# Altium footprint library QFN10P_20_118x118_TP94x65V5.PcbLib: 1 footprints
Each footprint in its own frame and in the unit in brackets; x right, y up, seen from the top. Pads: shape width x height; smd on the part's side, far side on the other; paste and mask are expansions set on the pad; w line width, h text height; cw(c..) or ccw(c..) is an arc to the next point about the centre after c.
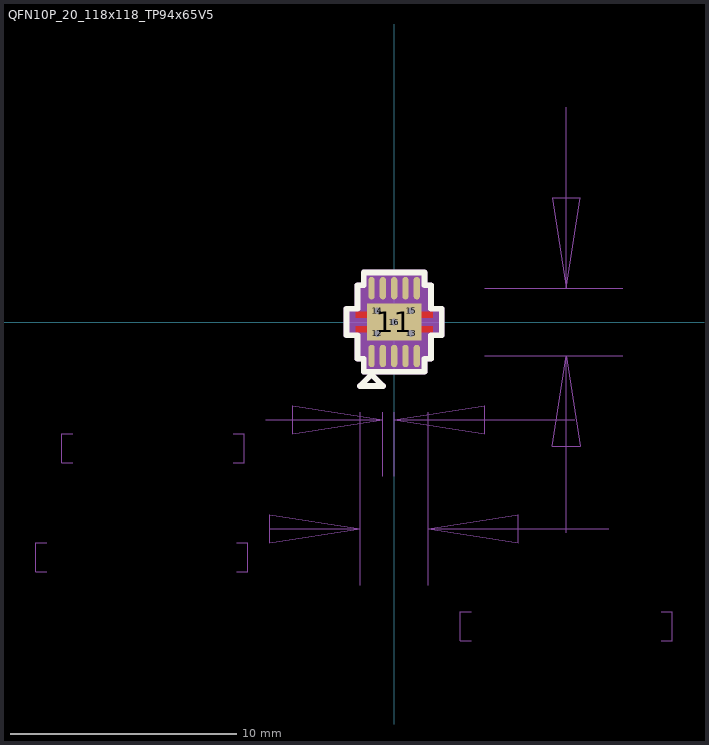
[diagram p0: the footprint, top view; thin cyan lines are the x and y axes]

## QFN10P_20_118x118_TP94x65V5 [mil] "QFN10P_20_118X118_TP94X65V5"
pads (16):
  oval 11x39 smd: 1(-39.37,-59.06) 2(-19.69,-59.06) 3(0,-59.06) 4(19.69,-59.06) 5(39.37,-59.06) 6(39.37,59.06) 7(19.69,59.06) 8(0,59.06) 9(-19.69,59.06) 10(-39.37,59.06)
  rect 94.49x64.96 smd: 11(0,0)
  round 22 hole 12: 12(-29.53,-19.69) 13(29.53,-19.69) 14(-29.53,19.69) 15(29.53,19.69) 16(0,0)
Top Layer:
  rectangle: -67.17,-18.43 -39.37,-7.01
  rectangle: -67.17,7.16 -39.37,18.58
  rectangle: 39.37,-18.43 67.47,-7.01
  rectangle: 39.37,7.16 67.47,18.58
Top Overlay:
  lines w10: -83,-23 -64.06,-23 -64.06,-64.06 -52.87,-64.06 -52.87,-86.56 52.87,-86.56 52.87,-64.06 64.06,-64.06 64.06,-23 83,-23 83,23 64.06,23 64.06,64.06 52.87,64.06 52.87,86.56 -52.87,86.56 -52.87,64.06 -64.06,64.06 -64.06,23 -83,23 -83,-23 ; -59.37,-111.56 -19.37,-111.56 -39.37,-91.56 -59.37,-111.56
Top Paste:
  rectangle: -67.17,-18.43 -39.37,-7.01
  rectangle: -67.17,7.16 -39.37,18.58
  rectangle: 39.37,-18.43 67.47,-7.01
  rectangle: 39.37,7.16 67.47,18.58
Top Solder:
  region: -44,-5 -70,-5 -70,-21 -44,-21
  region: -44,21 -70,21 -70,5 -44,5
  rectangle: 44,-21 70,-5
  rectangle: 44,5 70,21
Mechanical 5:
  lines w10: -83,-23 -83,23 -64.06,23 -64.06,64.06 -52.87,64.06 -52.87,86.56 52.87,86.56 52.87,64.06 64.06,64.06 64.06,23 83,23 83,-23 64.06,-23 64.06,-64.06 52.87,-64.06 52.87,-86.56 -52.87,-86.56 -52.87,-64.06 -64.06,-64.06 -64.06,-23 -83,-23 ; -59.37,-111.56 -39.37,-91.56 -19.37,-111.56 -59.37,-111.56
  text "U97" at 48.47,-100.62 h25
Mechanical 13:
  lines w1: -605.5,-435 -624.5,-435 -624.5,-385 -605.5,-385 ; -560,-245 -579,-245 -579,-195 -560,-195 ; -280,-245 -261,-245 -261,-195 -280,-195 ; -274.5,-435 -255.5,-435 -255.5,-385 -274.5,-385 ; -223.5,-170 -19.69,-170 ; -218,-360 -59.06,-360 ; -59.06,-458.43 -59.06,-157.48 ; -19.69,-268.43 -19.69,-157.48 ; 0,-268.43 0,-157.48 ; 59.06,-458.43 59.06,-157.48 ; 134.5,-555 115.5,-555 115.5,-505 134.5,-505 ; 157.48,-59.06 398.43,-59.06 ; 157.48,59.06 398.43,59.06 ; 300,-367.5 300,-59.06 ; 300,374.02 300,59.06 ; 314.96,-170 0,-170 ; 374.02,-360 59.06,-360 ; 465.5,-555 484.5,-555 484.5,-505 465.5,-505 ; -59.06,-360 -216.54,-335.39 -216.54,-384.61 -59.06,-360 ; -19.69,-170 -177.17,-145.39 -177.17,-194.61 -19.69,-170 ; 0,-170 157.48,-194.61 157.48,-145.39 0,-170 ; 59.06,-360 216.54,-384.61 216.54,-335.39 59.06,-360 ; 300,-59.06 275.39,-216.54 324.61,-216.54 300,-59.06 ; 300,59.06 324.61,216.54 275.39,216.54 300,59.06
  text "0.5" at -490,-145 h36
  text "19.69" at -541,-245 h36
  text "3" at -459,-335 h36
  text "118.11" at -586.5,-435 h36
  text "3" at 281,-455 h36
  text "118.11" at 153.5,-555 h36
Mechanical 14:
  text "11" at 22.4,0 h28
  text "12" at -7.13,-19.69 h28
  text "15" at 51.93,19.69 h28
  text "16" at 22.4,0 h28
  text "14" at -7.13,19.69 h28
  text "13" at 51.93,-19.69 h28
  text "8" at 11.2,59.06 h28
  text "4" at 30.89,-59.06 h28
  text "10" at -16.97,59.06 h28
  text "6" at 50.57,59.06 h28
  text "5" at 50.57,-59.06 h28
  text "3" at 11.2,-59.06 h28
  text "2" at -8.49,-59.06 h28
  text "9" at -8.49,59.06 h28
  text "7" at 30.89,59.06 h28
  text "1" at -28.17,-59.06 h28
Mechanical 16:
  region: -59.06,-59.06 59.06,-59.06 59.06,59.06 -59.06,59.06
  pour cut-out: 52.87,86.56 52.87,64.06 64.06,64.06 64.06,23 83,23 83,-23 64.06,-23 64.06,-64.06 52.87,-64.06 52.87,-86.56 -52.87,-86.56 -52.87,-64.06 -64.06,-64.06 -64.06,-23 -83,-23 -83,23 -64.06,23 -64.06,64.06 -52.87,64.06 -52.87,86.56
  lines w1: -59.06,-59.06 59.06,-59.06 59.06,59.06 -59.06,59.06 -59.06,-59.06
Mechanical 17:
  text ".Designator" at 6,1.67 h5
3D body: height 150, standoff 0, extent -59.06,-59.06 59.06,59.06